# Altium schematic symbol library Amplifiers.SchLib: 1 symbol
Pins are listed as number, name and electrical type; pins without a type are passive.

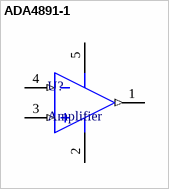
[diagram p0: symbol ADA4891-1]

## ADA4891-1
designator U?, comment Amplifier
SOT-23 Amplifier; Manufacturer Part No.: ADA4891-1ARJZ-R7; Bandwidth: 240MHz; Digi-Key Part No.: ADA4891-1ARJZ-R7CT-ND
footprint SOT23 Amplifier
pins: 1 OUT (out), 2 V- (power), 3 IN+ (in), 4 IN- (in), 5 V+ (power)